# EAGLE library part TEA5767MODULE (library microbuilder)
TEA5767 FM-Receiver Module - 87.5-108MHz
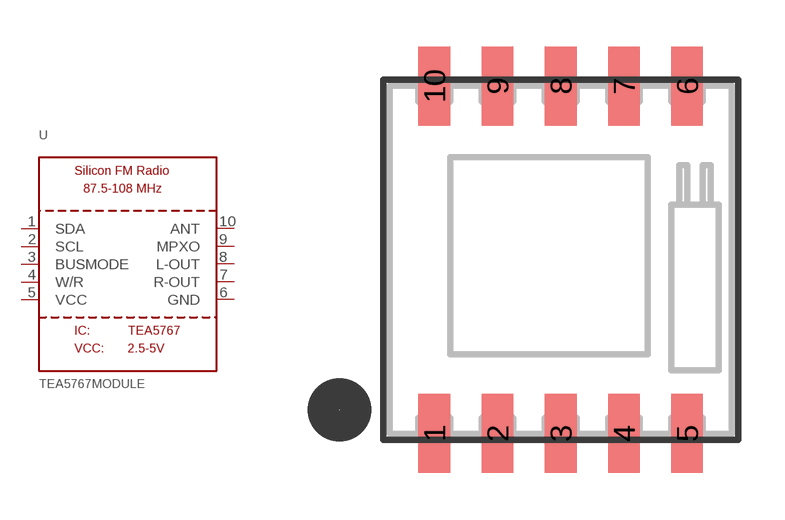
[diagram p181: symbol with the pads of TEA5767MODULE; footprint TEA5767MODULE]

Designator prefix U

## TEA5767MODULE  [TEA5767MODULE]
1  SDA
2  SCL
3  BUSMODE
4  W/R
5  VCC
6  GND
7  R-OUT
8  L-OUT
9  MPXO
10  ANT

## Footprint TEA5767MODULE (pad centres in mm)
smd 1.016 x 2.54: 1 -4.064,-5.588; 2 -2.032,-5.588; 3 0,-5.588; 4 2.032,-5.588; 5 4.064,-5.588; 6 4.064,5.588; 7 2.032,5.588; 8 0,5.588; 9 -2.032,5.588; 10 -4.064,5.588